# EAGLE library part AP7361E-33FGE-7 (library AP7361E-33FGE-7)
Wide Input Voltage Range: 2.2V to 6.0V Output Voltage Accuracy: +/-1% Very Low Dropout Voltage (3.3V): 360mV at 1A Typical Low Quiescent Current (IQ): 60A Typical Adjustable Output Voltage Range: 0.8V to 5.0V Fixed Output Options: 1.0V, 1.2V, 1.5V, 1.8V, 2.5V, 2.8V and 3.3V High PSRR: 75dB @ 1kHz Current Limit: 1.5A Fold-Back Short Circuit Protection: 400mA Power-Good (PG) Output for Supply Monitoring and for Sequencing of Other Supplies Source: Datasheet <https://www.diodes.com/datasheet/download/AP7361E.pdf>
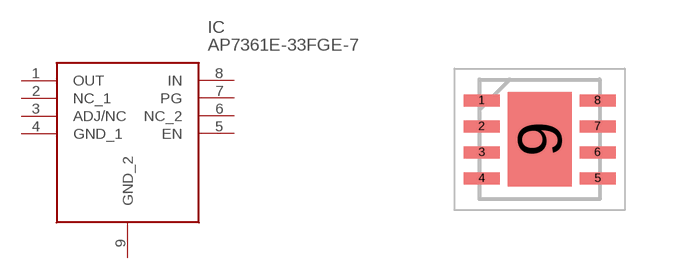
[diagram p0: symbol with the pads of SON65P300X300X63-9N; footprint SON65P300X300X63-9N]

Designator prefix IC

## AP7361E-33FGE-7 (Description: Wide Input Voltage Range: 2.2V to 6.0V Output Voltage Accuracy: +/-1% Very Low Dropout Voltage (3.3V): 360mV at 1A Typical Low Quiescent Current (IQ): 60A Typical Adjustable Output Voltage Range: 0.8V to 5.0V Fixed Output Options: 1.0V, 1.2V, 1.5V, 1.8V, 2.5V, 2.8V and 3.3V High PSRR: 75dB @ 1kHz Current Limit: 1.5A Fold-Back Short Circuit Protection: 400mA Power-Good (PG) Output for Supply Monitoring and for Sequencing of Other Supplies; Height: 0.63mm; Manufacturer_Name: Diodes Incorporated; Manufacturer_Part_Number: AP7361E-33FGE-7; Mouser_Part_Number: 621-AP7361E-33FGE-7; Mouser_Price-Stock: https://www.mouser.co.uk/ProductDetail/Diodes-Incorporated/AP7361E-33FGE-7?qs=hd1VzrDQEGjeYIMlU6aeYw%3D%3D)  [SON65P300X300X63-9N]
1  OUT
2  NC_1
3  ADJ/NC
4  GND_1
5  EN
6  NC_2
7  PG
8  IN
9  GND_2

## Footprint SON65P300X300X63-9N (pad centres in mm)
U-DFN3030-8 (Type E)
smd 0.9 x 0.3: 1 -1.45,0.975; 2 -1.45,0.325; 3 -1.45,-0.325; 4 -1.45,-0.975; 5 1.45,-0.975; 6 1.45,-0.325; 7 1.45,0.325; 8 1.45,0.975
smd 1.6 x 2.35: 9 0,0